# Altium schematic symbol library Microsemi.SchLib: 2 symbols
Pins are listed as number, name and electrical type; pins without a type are passive.

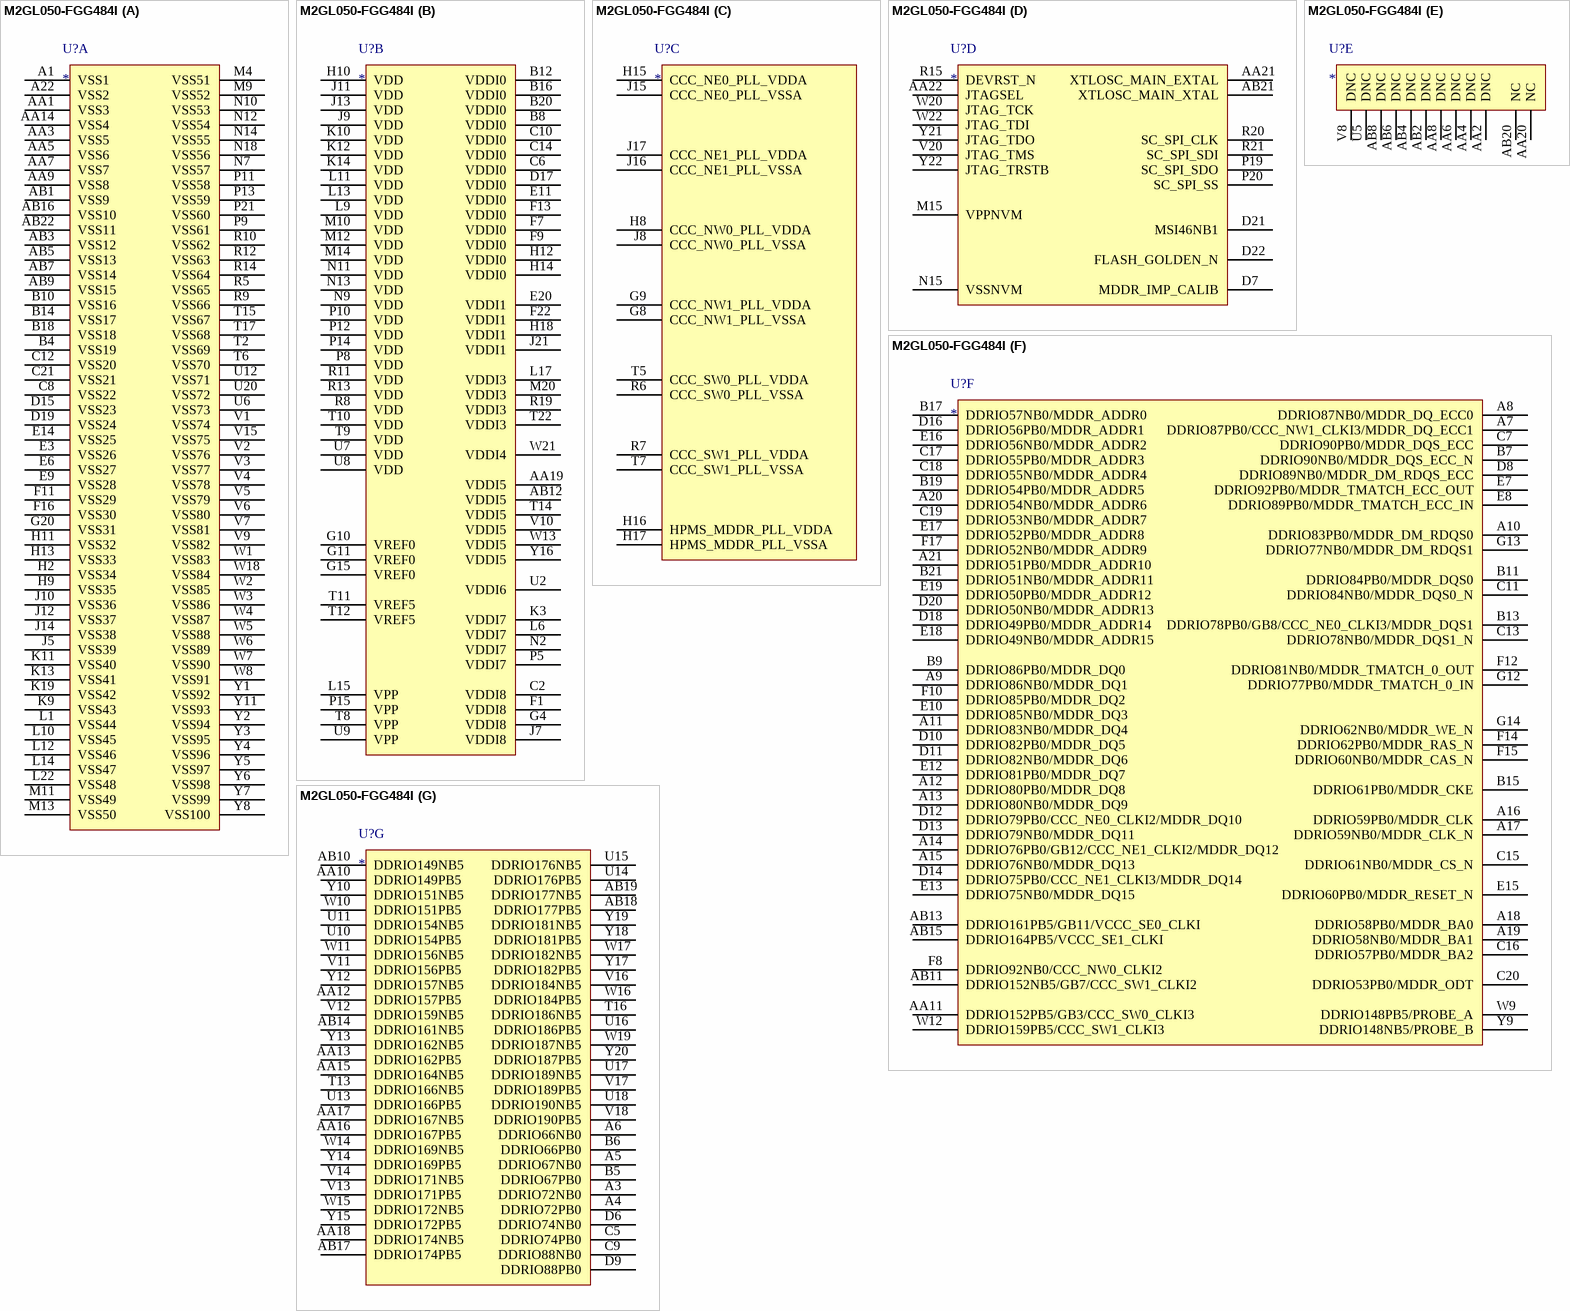
[diagram p0: symbol M2GL050-FGG484I]

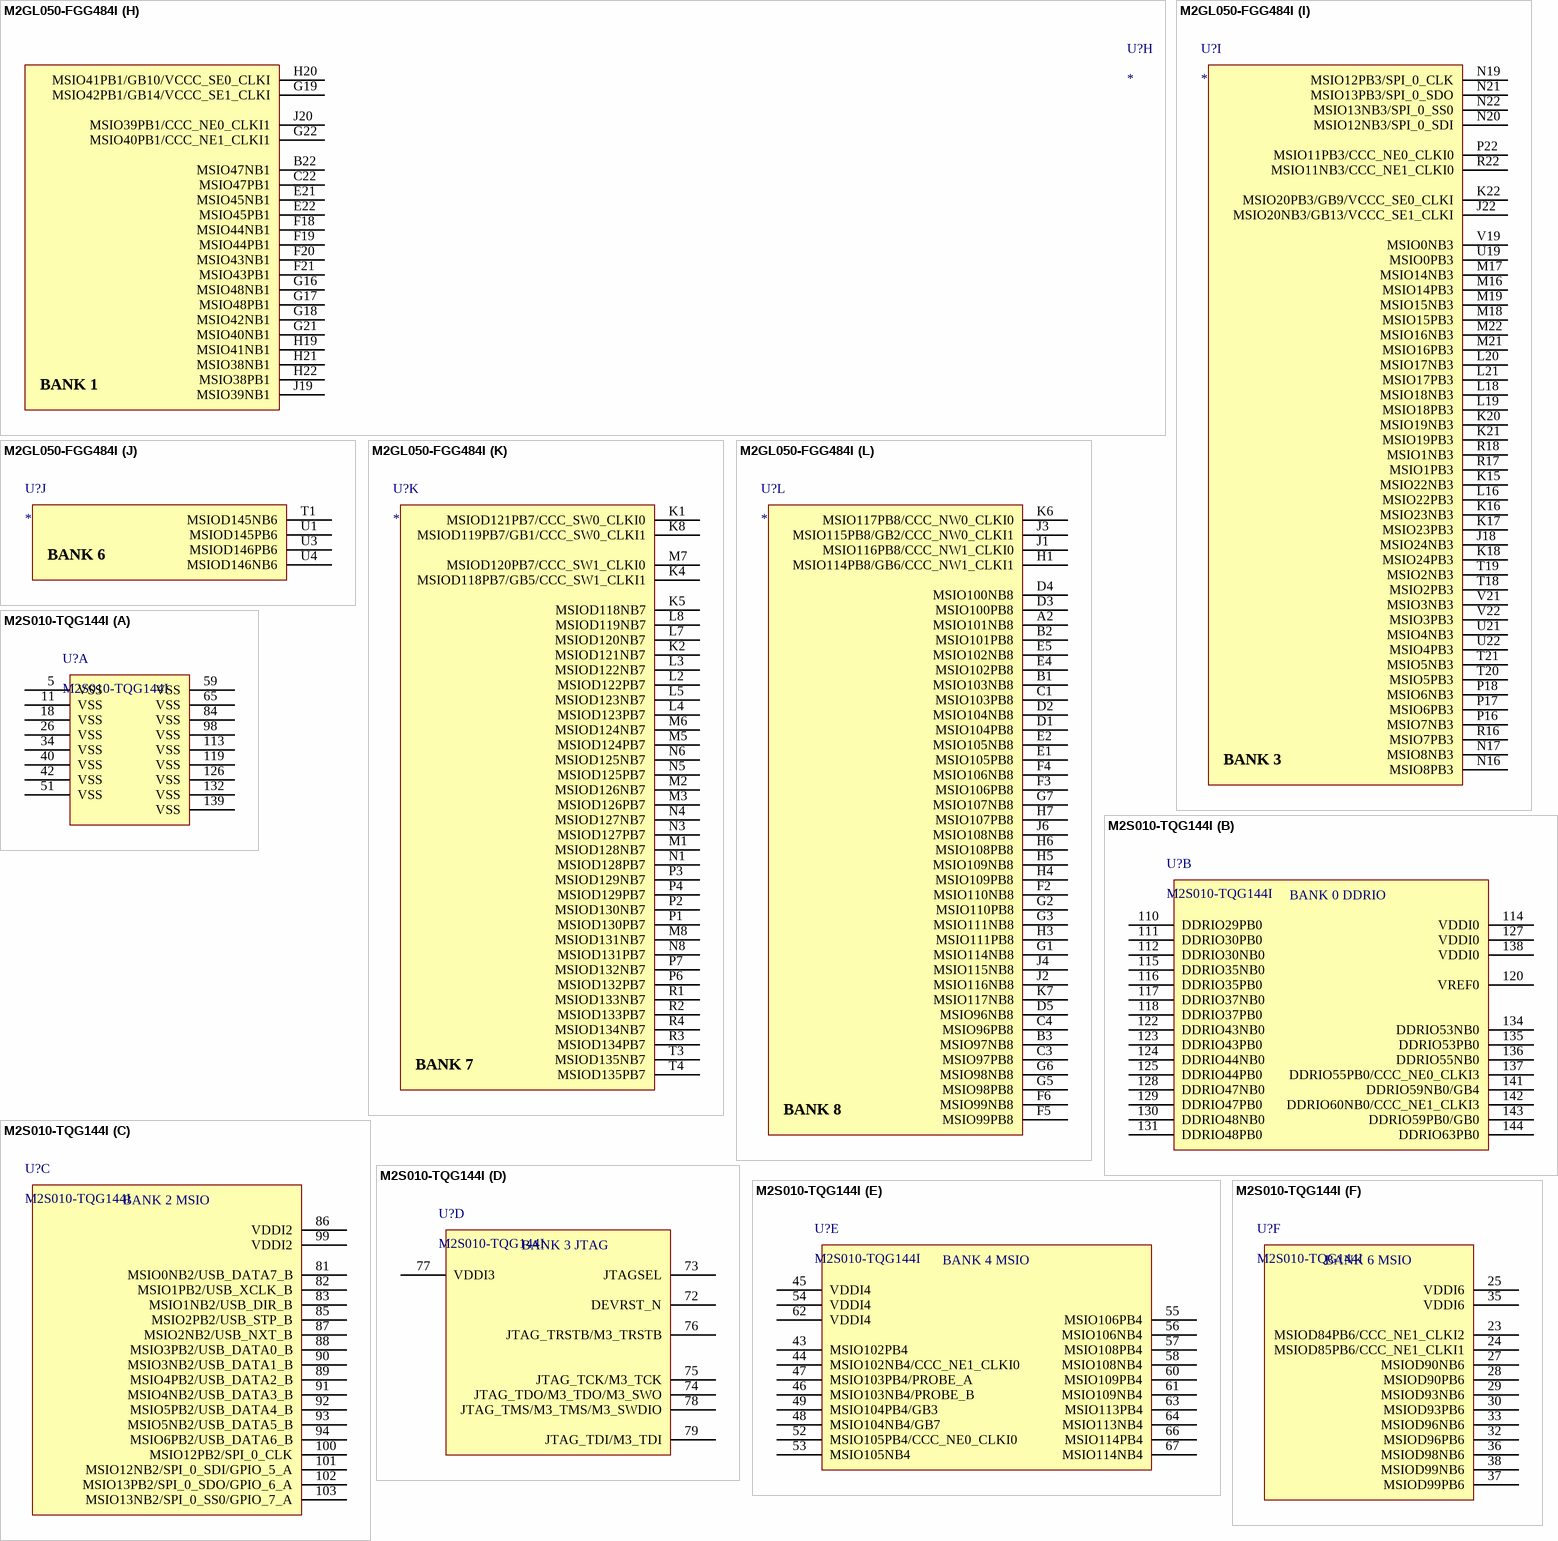
[diagram p1: symbols M2GL050-FGG484I to M2S010-TQG144I]

## M2GL050-FGG484I
designator U?
part A pins: A1 VSS1, A22 VSS2, AA1 VSS3, AA3 VSS5, AA5 VSS6, AA7 VSS7, AA9 VSS8, AA14 VSS4, AB1 VSS9, AB3 VSS12, AB5 VSS13, AB7 VSS14, AB9 VSS15, AB16 VSS10, AB22 VSS11, B4 VSS19, B10 VSS16, B14 VSS17, B18 VSS18, C8 VSS22, C12 VSS20, C21 VSS21, D15 VSS23, D19 VSS24, E3 VSS26, E6 VSS27, E9 VSS28, E14 VSS25, F11 VSS29, F16 VSS30, G20 VSS31, H2 VSS34, H9 VSS35, H11 VSS32, H13 VSS33, J5 VSS39, J10 VSS36, J12 VSS37, J14 VSS38, K9 VSS43, K11 VSS40, K13 VSS41, K19 VSS42, L1 VSS44, L10 VSS45, L12 VSS46, L14 VSS47, L22 VSS48, M4 VSS51, M9 VSS52, M11 VSS49, M13 VSS50, N7 VSS57, N10 VSS53, N12 VSS54, N14 VSS55, N18 VSS56, P9 VSS61, P11 VSS58, P13 VSS59, P21 VSS60, R5 VSS65, R9 VSS66, R10 VSS62, R12 VSS63, R14 VSS64, T2 VSS69, T6 VSS70, T15 VSS67, T17 VSS68, U6 VSS73, U12 VSS71, U20 VSS72, V1 VSS74, V2 VSS76, V3 VSS77, V4 VSS78, V5 VSS79, V6 VSS80, V7 VSS81, V9 VSS82, V15 VSS75, W1 VSS83, W2 VSS85, W3 VSS86, W4 VSS87, W5 VSS88, W6 VSS89, W7 VSS90, W8 VSS91, W18 VSS84, Y1 VSS92, Y2 VSS94, Y3 VSS95, Y4 VSS96, Y5 VSS97, Y6 VSS98, Y7 VSS99, Y8 VSS100, Y11 VSS93
part B pins: AA19 VDDI5, AB12 VDDI5, B8 VDDI0, B12 VDDI0, B16 VDDI0, B20 VDDI0, C2 VDDI8, C6 VDDI0, C10 VDDI0, C14 VDDI0, D17 VDDI0, E11 VDDI0, E20 VDDI1, F1 VDDI8, F7 VDDI0, F9 VDDI0, F13 VDDI0, F22 VDDI1, G4 VDDI8, G10 VREF0, G11 VREF0, G15 VREF0, H10 VDD, H12 VDDI0, H14 VDDI0, H18 VDDI1, J7 VDDI8, J9 VDD, J11 VDD, J13 VDD, J21 VDDI1, K3 VDDI7, K10 VDD, K12 VDD, K14 VDD, L6 VDDI7, L9 VDD, L11 VDD, L13 VDD, L15 VPP, L17 VDDI3, M10 VDD, M12 VDD, M14 VDD, M20 VDDI3, N2 VDDI7, N9 VDD, N11 VDD, N13 VDD, P5 VDDI7, P8 VDD, P10 VDD, P12 VDD, P14 VDD, P15 VPP, R8 VDD, R11 VDD, R13 VDD, R19 VDDI3, T8 VPP, T9 VDD, T10 VDD, T11 VREF5, T12 VREF5, T14 VDDI5, T22 VDDI3, U2 VDDI6, U7 VDD, U8 VDD, U9 VPP, V10 VDDI5, W13 VDDI5, W21 VDDI4, Y16 VDDI5
part C pins: G8 CCC_NW1_PLL_VSSA, G9 CCC_NW1_PLL_VDDA, H8 CCC_NW0_PLL_VDDA, H15 CCC_NE0_PLL_VDDA, H16 HPMS_MDDR_PLL_VDDA, H17 HPMS_MDDR_PLL_VSSA, J8 CCC_NW0_PLL_VSSA, J15 CCC_NE0_PLL_VSSA, J16 CCC_NE1_PLL_VSSA, J17 CCC_NE1_PLL_VDDA, R6 CCC_SW0_PLL_VSSA, R7 CCC_SW1_PLL_VDDA, T5 CCC_SW0_PLL_VDDA, T7 CCC_SW1_PLL_VSSA
part D pins: AA21 XTLOSC_MAIN_EXTAL, AA22 JTAGSEL, AB21 XTLOSC_MAIN_XTAL, D7 MDDR_IMP_CALIB, D21 MSI46NB1, D22 FLASH_GOLDEN_N, M15 VPPNVM "Analof sense circuit supply of embedded non-volatile memory (eNVM). Must be shorted to VPP", N15 VSSNVM, P19 SC_SPI_SDO, P20 SC_SPI_SS, R15 DEVRST_N, R20 SC_SPI_CLK, R21 SC_SPI_SDI, V20 JTAG_TMS, W20 JTAG_TCK, W22 JTAG_TDI, Y21 JTAG_TDO, Y22 JTAG_TRSTB
part E pins: AA2 DNC, AA4 DNC, AA6 DNC, AA8 DNC, AA20 NC, AB2 DNC, AB4 DNC, AB6 DNC, AB8 DNC, AB20 NC, U5 DNC, V8 DNC
part F pins: A7 DDRIO87PB0/CCC_NW1_CLKI3/MDDR_DQ_ECC1, A8 DDRIO87NB0/MDDR_DQ_ECC0, A9 DDRIO86NB0/MDDR_DQ1, A10 DDRIO83PB0/MDDR_DM_RDQS0, A11 DDRIO83NB0/MDDR_DQ4, A12 DDRIO80PB0/MDDR_DQ8, A13 DDRIO80NB0/MDDR_DQ9, A14 DDRIO76PB0/GB12/CCC_NE1_CLKI2/MDDR_DQ12, A15 DDRIO76NB0/MDDR_DQ13, A16 DDRIO59PB0/MDDR_CLK, A17 DDRIO59NB0/MDDR_CLK_N, A18 DDRIO58PB0/MDDR_BA0, A19 DDRIO58NB0/MDDR_BA1, A20 DDRIO54NB0/MDDR_ADDR6, A21 DDRIO51PB0/MDDR_ADDR10, AA11 DDRIO152PB5/GB3/CCC_SW0_CLKI3, AB11 DDRIO152NB5/GB7/CCC_SW1_CLKI2, AB13 DDRIO161PB5/GB11/VCCC_SE0_CLKI, AB15 DDRIO164PB5/VCCC_SE1_CLKI, B7 DDRIO90NB0/MDDR_DQS_ECC_N, B9 DDRIO86PB0/MDDR_DQ0, B11 DDRIO84PB0/MDDR_DQS0, B13 DDRIO78PB0/GB8/CCC_NE0_CLKI3/MDDR_DQS1, B15 DDRIO61PB0/MDDR_CKE, B17 DDRIO57NB0/MDDR_ADDR0, B19 DDRIO54PB0/MDDR_ADDR5, B21 DDRIO51NB0/MDDR_ADDR11, C7 DDRIO90PB0/MDDR_DQS_ECC, C11 DDRIO84NB0/MDDR_DQS0_N, C13 DDRIO78NB0/MDDR_DQS1_N, C15 DDRIO61NB0/MDDR_CS_N, C16 DDRIO57PB0/MDDR_BA2, C17 DDRIO55PB0/MDDR_ADDR3, C18 DDRIO55NB0/MDDR_ADDR4, C19 DDRIO53NB0/MDDR_ADDR7, C20 DDRIO53PB0/MDDR_ODT, D8 DDRIO89NB0/MDDR_DM_RDQS_ECC, D10 DDRIO82PB0/MDDR_DQ5, D11 DDRIO82NB0/MDDR_DQ6, D12 DDRIO79PB0/CCC_NE0_CLKI2/MDDR_DQ10, D13 DDRIO79NB0/MDDR_DQ11, D14 DDRIO75PB0/CCC_NE1_CLKI3/MDDR_DQ14, D16 DDRIO56PB0/MDDR_ADDR1, D18 DDRIO49PB0/MDDR_ADDR14, D20 DDRIO50NB0/MDDR_ADDR13, E7 DDRIO92PB0/MDDR_TMATCH_ECC_OUT, E8 DDRIO89PB0/MDDR_TMATCH_ECC_IN, E10 DDRIO85NB0/MDDR_DQ3, E12 DDRIO81PB0/MDDR_DQ7, E13 DDRIO75NB0/MDDR_DQ15, E15 DDRIO60PB0/MDDR_RESET_N, E16 DDRIO56NB0/MDDR_ADDR2, E17 DDRIO52PB0/MDDR_ADDR8, E18 DDRIO49NB0/MDDR_ADDR15, E19 DDRIO50PB0/MDDR_ADDR12, F8 DDRIO92NB0/CCC_NW0_CLKI2, F10 DDRIO85PB0/MDDR_DQ2, F12 DDRIO81NB0/MDDR_TMATCH_0_OUT, F14 DDRIO62PB0/MDDR_RAS_N, F15 DDRIO60NB0/MDDR_CAS_N, F17 DDRIO52NB0/MDDR_ADDR9, G12 DDRIO77PB0/MDDR_TMATCH_0_IN, G13 DDRIO77NB0/MDDR_DM_RDQS1, G14 DDRIO62NB0/MDDR_WE_N, W9 DDRIO148PB5/PROBE_A, W12 DDRIO159PB5/CCC_SW1_CLKI3, Y9 DDRIO148NB5/PROBE_B
part G pins: A3 DDRIO72NB0, A4 DDRIO72PB0, A5 DDRIO67NB0, A6 DDRIO66NB0, AA10 DDRIO149PB5, AA12 DDRIO157PB5, AA13 DDRIO162PB5, AA15 DDRIO164NB5, AA16 DDRIO167PB5, AA17 DDRIO167NB5, AA18 DDRIO174NB5, AB10 DDRIO149NB5, AB14 DDRIO161NB5, AB17 DDRIO174PB5, AB18 DDRIO177PB5, AB19 DDRIO177NB5, B5 DDRIO67PB0, B6 DDRIO66PB0, C5 DDRIO74PB0, C9 DDRIO88NB0, D6 DDRIO74NB0, D9 DDRIO88PB0, T13 DDRIO166NB5, T16 DDRIO186NB5, U10 DDRIO154PB5, U11 DDRIO154NB5, U13 DDRIO166PB5, U14 DDRIO176PB5, U15 DDRIO176NB5, U16 DDRIO186PB5, U17 DDRIO189NB5, U18 DDRIO190NB5, V11 DDRIO156PB5, V12 DDRIO159NB5, V13 DDRIO171PB5, V14 DDRIO171NB5, V16 DDRIO184NB5, V17 DDRIO189PB5, V18 DDRIO190PB5, W10 DDRIO151PB5, W11 DDRIO156NB5, W14 DDRIO169NB5, W15 DDRIO172NB5, W16 DDRIO184PB5, W17 DDRIO182NB5, W19 DDRIO187NB5, Y10 DDRIO151NB5, Y12 DDRIO157NB5, Y13 DDRIO162NB5, Y14 DDRIO169PB5, Y15 DDRIO172PB5, Y17 DDRIO182PB5, Y18 DDRIO181PB5, Y19 DDRIO181NB5, Y20 DDRIO187PB5
part H pins: B22 MSIO47NB1, C22 MSIO47PB1, E21 MSIO45NB1, E22 MSIO45PB1, F18 MSIO44NB1, F19 MSIO44PB1, F20 MSIO43NB1, F21 MSIO43PB1, G16 MSIO48NB1, G17 MSIO48PB1, G18 MSIO42NB1, G19 MSIO42PB1/GB14/VCCC_SE1_CLKI, G21 MSIO40NB1, G22 MSIO40PB1/CCC_NE1_CLKI1, H19 MSIO41NB1, H20 MSIO41PB1/GB10/VCCC_SE0_CLKI, H21 MSIO38NB1, H22 MSIO38PB1, J19 MSIO39NB1, J20 MSIO39PB1/CCC_NE0_CLKI1
part I pins: J18 MSIO24NB3, J22 MSIO20NB3/GB13/VCCC_SE1_CLKI, K15 MSIO22NB3, K16 MSIO23NB3, K17 MSIO23PB3, K18 MSIO24PB3, K20 MSIO19NB3, K21 MSIO19PB3, K22 MSIO20PB3/GB9/VCCC_SE0_CLKI, L16 MSIO22PB3, L18 MSIO18NB3, L19 MSIO18PB3, L20 MSIO17NB3, L21 MSIO17PB3, M16 MSIO14PB3, M17 MSIO14NB3, M18 MSIO15PB3, M19 MSIO15NB3, M21 MSIO16PB3, M22 MSIO16NB3, N16 MSIO8PB3, N17 MSIO8NB3, N19 MSIO12PB3/SPI_0_CLK, N20 MSIO12NB3/SPI_0_SDI, N21 MSIO13PB3/SPI_0_SDO, N22 MSIO13NB3/SPI_0_SS0, P16 MSIO7NB3, P17 MSIO6PB3, P18 MSIO6NB3, P22 MSIO11PB3/CCC_NE0_CLKI0, R16 MSIO7PB3, R17 MSIO1PB3, R18 MSIO1NB3, R22 MSIO11NB3/CCC_NE1_CLKI0, T18 MSIO2PB3, T19 MSIO2NB3, T20 MSIO5PB3, T21 MSIO5NB3, U19 MSIO0PB3, U21 MSIO4NB3, U22 MSIO4PB3, V19 MSIO0NB3, V21 MSIO3NB3, V22 MSIO3PB3
part J pins: T1 MSIOD145NB6, U1 MSIOD145PB6, U3 MSIOD146PB6, U4 MSIOD146NB6
part K pins: K1 MSIOD121PB7/CCC_SW0_CLKI0, K2 MSIOD121NB7, K4 MSIOD118PB7/GB5/CCC_SW1_CLKI1, K5 MSIOD118NB7, K8 MSIOD119PB7/GB1/CCC_SW0_CLKI1, L2 MSIOD122PB7, L3 MSIOD122NB7, L4 MSIOD123PB7, L5 MSIOD123NB7, L7 MSIOD120NB7, L8 MSIOD119NB7, M1 MSIOD128NB7, M2 MSIOD126NB7, M3 MSIOD126PB7, M5 MSIOD124PB7, M6 MSIOD124NB7, M7 MSIOD120PB7/CCC_SW1_CLKI0, M8 MSIOD131NB7, N1 MSIOD128PB7, N3 MSIOD127PB7, N4 MSIOD127NB7, N5 MSIOD125PB7, N6 MSIOD125NB7, N8 MSIOD131PB7, P1 MSIOD130PB7, P2 MSIOD130NB7, P3 MSIOD129NB7, P4 MSIOD129PB7, P6 MSIOD132PB7, P7 MSIOD132NB7, R1 MSIOD133NB7, R2 MSIOD133PB7, R3 MSIOD134PB7, R4 MSIOD134NB7, T3 MSIOD135NB7, T4 MSIOD135PB7
part L pins: A2 MSIO101NB8, B1 MSIO103NB8, B2 MSIO101PB8, B3 MSIO97NB8, C1 MSIO103PB8, C3 MSIO97PB8, C4 MSIO96PB8, D1 MSIO104PB8, D2 MSIO104NB8, D3 MSIO100PB8, D4 MSIO100NB8, D5 MSIO96NB8, E1 MSIO105PB8, E2 MSIO105NB8, E4 MSIO102PB8, E5 MSIO102NB8, F2 MSIO110NB8, F3 MSIO106PB8, F4 MSIO106NB8, F5 MSIO99PB8, F6 MSIO99NB8, G1 MSIO114NB8, G2 MSIO110PB8, G3 MSIO111NB8, G5 MSIO98PB8, G6 MSIO98NB8, G7 MSIO107NB8, H1 MSIO114PB8/GB6/CCC_NW1_CLKI1, H3 MSIO111PB8, H4 MSIO109PB8, H5 MSIO109NB8, H6 MSIO108PB8, H7 MSIO107PB8, J1 MSIO116PB8/CCC_NW1_CLKI0, J2 MSIO116NB8, J3 MSIO115PB8/GB2/CCC_NW0_CLKI1, J4 MSIO115NB8, J6 MSIO108NB8, K6 MSIO117PB8/CCC_NW0_CLKI0, K7 MSIO117NB8
part H text: BANK 1
part I text: BANK 3
part J text: BANK 6
part K text: BANK 7
part L text: BANK 8

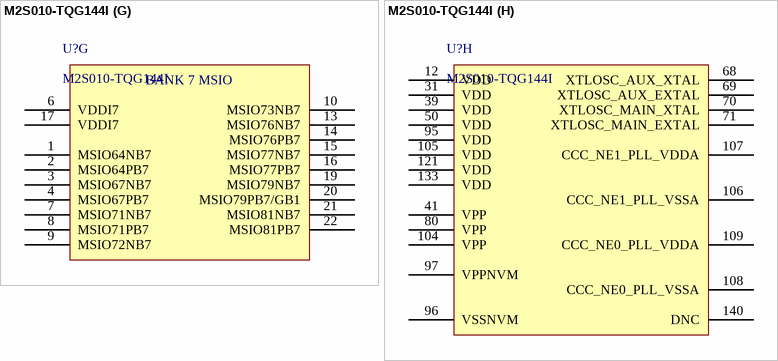
[diagram p2: symbol M2S010-TQG144I]

## M2S010-TQG144I
designator U?
part A pins: 5 VSS, 11 VSS, 18 VSS, 26 VSS, 34 VSS, 40 VSS, 42 VSS, 51 VSS, 59 VSS, 65 VSS, 84 VSS, 98 VSS, 113 VSS, 119 VSS, 126 VSS, 132 VSS, 139 VSS
part B pins: 110 DDRIO29PB0, 111 DDRIO30PB0, 112 DDRIO30NB0, 114 VDDI0, 115 DDRIO35NB0, 116 DDRIO35PB0, 117 DDRIO37NB0, 118 DDRIO37PB0, 120 VREF0, 122 DDRIO43NB0, 123 DDRIO43PB0, 124 DDRIO44NB0, 125 DDRIO44PB0, 127 VDDI0, 128 DDRIO47NB0, 129 DDRIO47PB0, 130 DDRIO48NB0, 131 DDRIO48PB0, 134 DDRIO53NB0, 135 DDRIO53PB0, 136 DDRIO55NB0, 137 DDRIO55PB0/CCC_NE0_CLKI3, 138 VDDI0, 141 DDRIO59NB0/GB4, 142 DDRIO60NB0/CCC_NE1_CLKI3, 143 DDRIO59PB0/GB0, 144 DDRIO63PB0
part C pins: 81 MSIO0NB2/USB_DATA7_B, 82 MSIO1PB2/USB_XCLK_B, 83 MSIO1NB2/USB_DIR_B, 85 MSIO2PB2/USB_STP_B, 86 VDDI2, 87 MSIO2NB2/USB_NXT_B, 88 MSIO3PB2/USB_DATA0_B, 89 MSIO4PB2/USB_DATA2_B, 90 MSIO3NB2/USB_DATA1_B, 91 MSIO4NB2/USB_DATA3_B, 92 MSIO5PB2/USB_DATA4_B, 93 MSIO5NB2/USB_DATA5_B, 94 MSIO6PB2/USB_DATA6_B, 99 VDDI2, 100 MSIO12PB2/SPI_0_CLK, 101 MSIO12NB2/SPI_0_SDI/GPIO_5_A, 102 MSIO13PB2/SPI_0_SDO/GPIO_6_A, 103 MSIO13NB2/SPI_0_SS0/GPIO_7_A
part D pins: 72 DEVRST_N, 73 JTAGSEL, 74 JTAG_TDO/M3_TDO/M3_SWO, 75 JTAG_TCK/M3_TCK, 76 JTAG_TRSTB/M3_TRSTB, 77 VDDI3, 78 JTAG_TMS/M3_TMS/M3_SWDIO, 79 JTAG_TDI/M3_TDI
part E pins: 43 MSIO102PB4, 44 MSIO102NB4/CCC_NE1_CLKI0, 45 VDDI4, 46 MSIO103NB4/PROBE_B, 47 MSIO103PB4/PROBE_A, 48 MSIO104NB4/GB7, 49 MSIO104PB4/GB3, 52 MSIO105PB4/CCC_NE0_CLKI0, 53 MSIO105NB4, 54 VDDI4, 55 MSIO106PB4, 56 MSIO106NB4, 57 MSIO108PB4, 58 MSIO108NB4, 60 MSIO109PB4, 61 MSIO109NB4, 62 VDDI4, 63 MSIO113PB4, 64 MSIO113NB4, 66 MSIO114PB4, 67 MSIO114NB4
part F pins: 23 MSIOD84PB6/CCC_NE1_CLKI2, 24 MSIOD85PB6/CCC_NE1_CLKI1, 25 VDDI6, 27 MSIOD90NB6, 28 MSIOD90PB6, 29 MSIOD93NB6, 30 MSIOD93PB6, 32 MSIOD96PB6, 33 MSIOD96NB6, 35 VDDI6, 36 MSIOD98NB6, 37 MSIOD99PB6, 38 MSIOD99NB6
part G pins: 1 MSIO64NB7, 2 MSIO64PB7, 3 MSIO67NB7, 4 MSIO67PB7, 6 VDDI7, 7 MSIO71NB7, 8 MSIO71PB7, 9 MSIO72NB7, 10 MSIO73NB7, 13 MSIO76NB7, 14 MSIO76PB7, 15 MSIO77NB7, 16 MSIO77PB7, 17 VDDI7, 19 MSIO79NB7, 20 MSIO79PB7/GB1, 21 MSIO81NB7, 22 MSIO81PB7
part H pins: 12 VDD, 31 VDD, 39 VDD, 41 VPP, 50 VDD, 68 XTLOSC_AUX_XTAL, 69 XTLOSC_AUX_EXTAL, 70 XTLOSC_MAIN_XTAL, 71 XTLOSC_MAIN_EXTAL, 80 VPP, 95 VDD, 96 VSSNVM, 97 VPPNVM, 104 VPP, 105 VDD, 106 CCC_NE1_PLL_VSSA, 107 CCC_NE1_PLL_VDDA, 108 CCC_NE0_PLL_VSSA, 109 CCC_NE0_PLL_VDDA, 121 VDD, 133 VDD, 140 DNC
part B text: BANK 0 DDRIO
part C text: BANK 2 MSIO
part D text: BANK 3 JTAG
part E text: BANK 4 MSIO
part F text: BANK 6 MSIO
part G text: BANK 7 MSIO